# Altium schematic symbol library SX1262.SchLib: 1 symbol
Pins are listed as number, name and electrical type; pins without a type are passive.

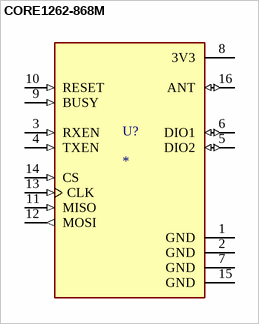
[diagram p0: symbol CORE1262-868M]

## CORE1262-868M
designator U?
Lora core module; MF: Waveshare Electronics; MP: Core1262-868M; Package: Package; Value: *; Check_prices: https://www.snapeda.com/parts/Core1262-868M/Waveshare+Electronics/view-part/?ref=eda; SnapEDA_Link: https://www.snapeda.com/parts/Core1262-868M/Waveshare+Electronics/view-part/?ref=snap; Availability: Not in stock; Price: None
footprint XCVR_CORE1262-868M
pins: 1 GND (power), 2 GND (power), 3 RXEN (in), 4 TXEN (in), 5 DIO2 (io), 6 DIO1 (io), 7 GND (power), 8 3V3 (power), 9 BUSY (in), 10 RESET (in), 11 MISO (in), 12 MOSI (out), 13 CLK (in), 14 CS (in), 15 GND (power), 16 ANT (io)